# Altium footprint library V-Semiconductors.PCBLIB: 6 footprints
Each footprint in its own frame and in the unit in brackets; x right, y up, seen from the top. Pads: shape width x height; smd on the part's side, far side on the other; paste and mask are expansions set on the pad; w line width, h text height; cw(c..) or ccw(c..) is an arc to the next point about the centre after c.
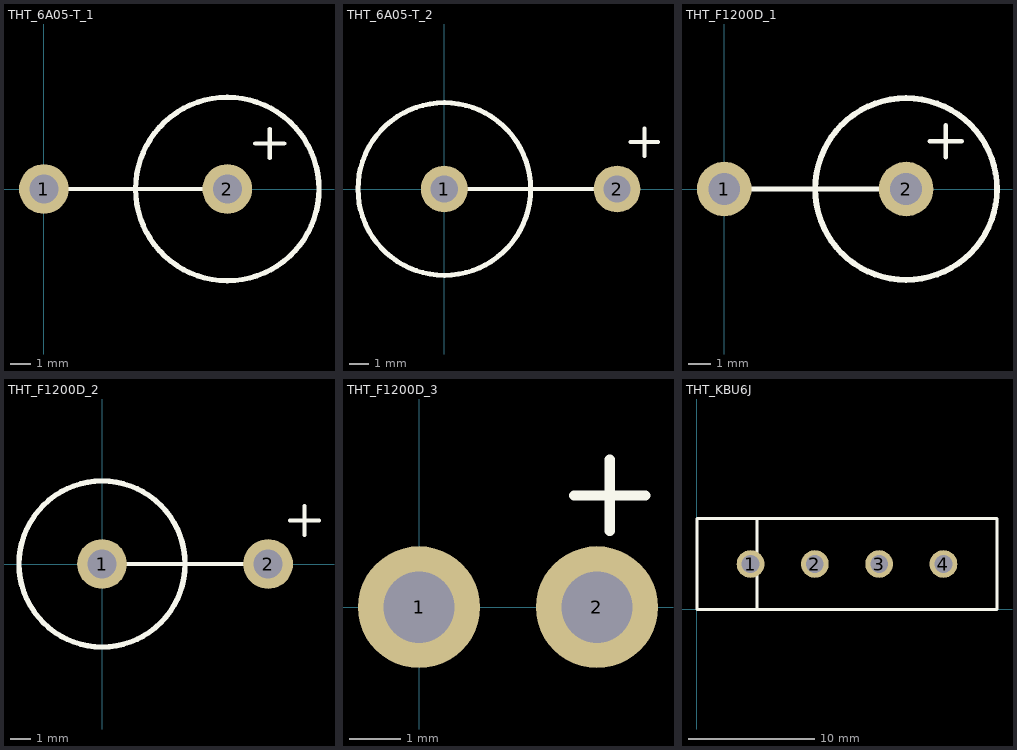
[diagram p0: the footprints below, top view; thin cyan lines are the x and y axes]

## THT_6A05-T_1 [mm]
pads (2):
  round 2.4 hole 1.4: 1(0,0) 2(8.85,0)
Top Overlay:
  circle w0.254: c8.85,0 r4.425
  lines w0.2: 0,0 8.85,0 ; 10.2,2.2 11.6,2.2 ; 10.9,1.5 10.9,2.9

## THT_6A05-T_2 [mm]
height 0.025
pads (2):
  round 2.4 hole 1.4: 1(0,0) 2(8.85,0)
Top Overlay:
  circle w0.254: c0,0 r4.425
  lines w0.2: 0,0 8.85,0 ; 9.55,2.4 10.95,2.4 ; 10.25,1.7 10.25,3.1

## THT_F1200D_1 [mm] "THT_F1200D_1"
height 13
pads (2):
  round 2.4 hole 1.4: 1(0,0) 2(8,0)
Top Overlay:
  circle w0.254: c8,0 r4
  lines w0.2: 0,0 8,0 ; 9.05,2.1 10.45,2.1 ; 9.75,1.4 9.75,2.8

## THT_F1200D_2 [mm]
height 13
pads (2):
  round 2.4 hole 1.4: 1(0,0) 2(8,0)
Top Overlay:
  circle w0.254: c0,0 r4
  lines w0.2: 0,0 8,0 ; 9.05,2.1 10.45,2.1 ; 9.75,1.4 9.75,2.8

## THT_F1200D_3 [mm]
pads (2):
  round 2.4 hole 1.4: 1(0,0) 2(3.5,0)
Top Overlay:
  lines w0.2: 3.05,2.2 4.45,2.2 ; 3.75,1.5 3.75,2.9

## THT_KBU6J [mm]
pads (4):
  round 2.2 hole 1.4: 1(4.25,3.6) 2(9.35,3.6) 3(14.45,3.6) 4(19.55,3.6)
Top Overlay:
  lines w0.254: 4.75,0.05 4.75,7.2 ; 0,0 0,7.2 23.8,7.2 23.8,0 0,0